# Altium footprint library mcc-packages.PcbLib: 1 footprints
Each footprint in its own frame and in the unit in brackets; x right, y up, seen from the top. Pads: shape width x height; smd on the part's side, far side on the other; paste and mask are expansions set on the pad; w line width, h text height; cw(c..) or ccw(c..) is an arc to the next point about the centre after c.
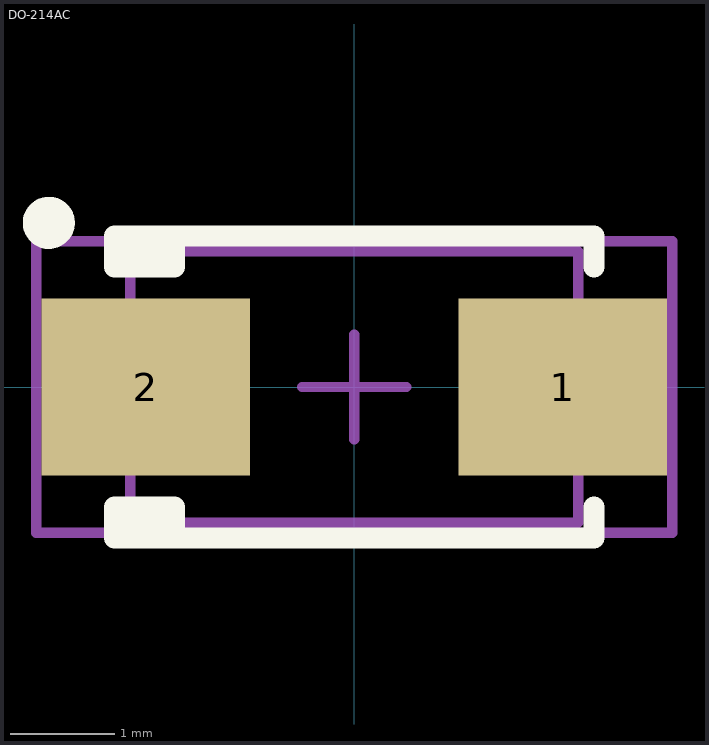
[diagram p0: the footprint, top view; thin cyan lines are the x and y axes]

## DO-214AC [mm] "Molded Diode, 2-Leads, Body 4.3x2.6mm, IPC High Density"
height 2.15
pads (2):
  rect 2x1.7 smd: 1(2,0) 2(-2,0)
Top Overlay:
  circle w0.25: c-2.93,1.575 r0.125
  rectangle: -2.3,1.125 -1.725,1.45
  rectangle: -2.3,-1.45 -1.71,-1.125
  lines w0.2: -1.725,-1.45 -1.725,-1.15 -2.3,-1.15 -2.3,-1.45 2.3,-1.45 2.3,-1.15 ; -1.725,1.45 -1.725,1.15 -2.3,1.15 -2.3,1.45 2.3,1.45 2.3,1.15
Mechanical 13:
  lines w0.1: -0.5,0 0.5,0 ; 0,-0.5 0,0.5 ; -2.15,-1.3 2.15,-1.3 2.15,1.3 -2.15,1.3 -2.15,-1.3
Mechanical 15:
  region: -2.375,-0.325 -2.7,0 -2.375,0.325
  lines w0.1: -3.05,-1.4 3.05,-1.4 3.05,1.4 -3.05,1.4 -3.05,-1.4
  text ".Designator" at -0.875,-0.175 h0.5
3D body: height 2.42, standoff 0.02, extent -2.6,-1.3 2.6,1.3